# EAGLE library part XOSE_AVR_SPI (library geekworm-monitor)
AVR ISP 6 Pin This is the reduced ISP connector for AVR programming. Common on Arduino. This footprint will take up less PCB space and can be used with a 10-pin to 6-pin adapter such as SKU: BOB-08508
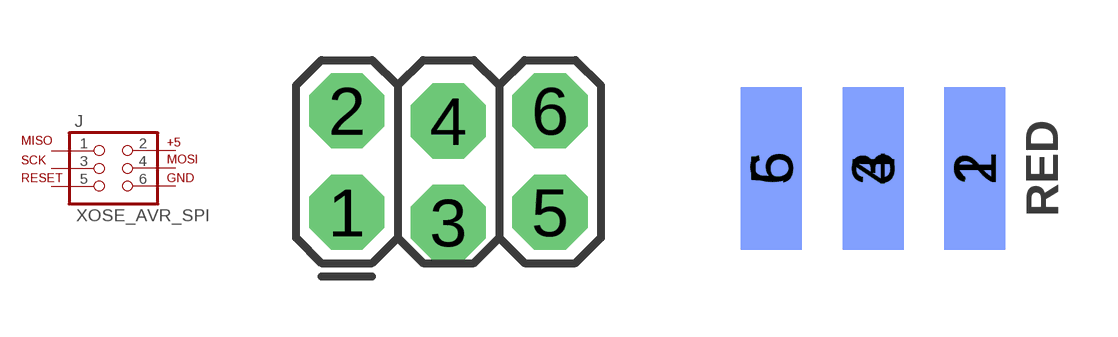
[diagram p2: symbol with the pads of XOSE_2X3_LOCK; footprints XOSE_2X3_LOCK, XOSE_2X3EDGE]

Designator prefix J

## XOSE_AVR_SPI2X3_LOCK  [XOSE_2X3_LOCK]
1  1  pas
2  2  pas
3  3  pas
4  4  pas
5  5  pas
6  6  pas

## XOSE_AVR_SPIEDGE  [XOSE_2X3EDGE]
Pads as for XOSE_2X3_LOCK

## XOSE_AVR_SPINS  [XOSE_2X3-NS]
Pads as for XOSE_2X3_LOCK

## XOSE_AVR_SPIOFFSET_PADS  [XOSE_2X3_OFFSET]
Pads as for XOSE_2X3_LOCK

## XOSE_AVR_SPIPTH  [XOSE_2X3]
Pads as for XOSE_2X3_LOCK

## XOSE_AVR_SPI_SMT  [XOSE_2X3SMT]
Pads as for XOSE_2X3_LOCK

## Footprint XOSE_2X3_LOCK (pad centres in mm)
drill 1.016 pad 1.88 octagon: 1 0,0; 2 0,2.54; 3 2.54,-0.254; 4 2.54,2.286; 5 5.08,0; 6 5.08,2.54

## Footprint XOSE_2X3EDGE (pad centres in mm)
smd 1.524 x 4.064: 1 2.54,0; 3 0,0; 5 -2.54,0
smd 1.524 x 4.064 bottom: 2 2.54,0; 4 0,0; 6 -2.54,0

## Footprint XOSE_2X3-NS (pad centres in mm)
drill 1.016 pad 1.88 square: 1 -2.54,-1.27
drill 1.016 pad 1.88 octagon: 2 -2.54,1.27; 3 0,-1.27; 4 0,1.27; 5 2.54,-1.27; 6 2.54,1.27

## Footprint XOSE_2X3_OFFSET (pad centres in mm)
drill 1.118 pad 1.88 offset: 1 -2.54,-1.27; 2 -2.54,1.27; 3 0,-1.27; 4 0,1.27; 5 2.54,-1.27; 6 2.54,1.27

## Footprint XOSE_2X3 (pad centres in mm)
drill 1.016 pad 1.88 octagon: 1 0,0; 2 0,2.54; 3 2.54,0; 4 2.54,2.54; 5 5.08,0; 6 5.08,2.54

## Footprint XOSE_2X3SMT (pad centres in mm)
smd 1 x 3.17: 1 2.54,2.665; 2 2.54,-2.665; 3 0,2.665; 4 0,-2.665; 5 -2.54,2.665; 6 -2.54,-2.665